# Altium footprint library XB7608A.PcbLib: 1 footprints
Each footprint in its own frame and in the unit in brackets; x right, y up, seen from the top. Pads: shape width x height; smd on the part's side, far side on the other; paste and mask are expansions set on the pad; w line width, h text height; cw(c..) or ccw(c..) is an arc to the next point about the centre after c.
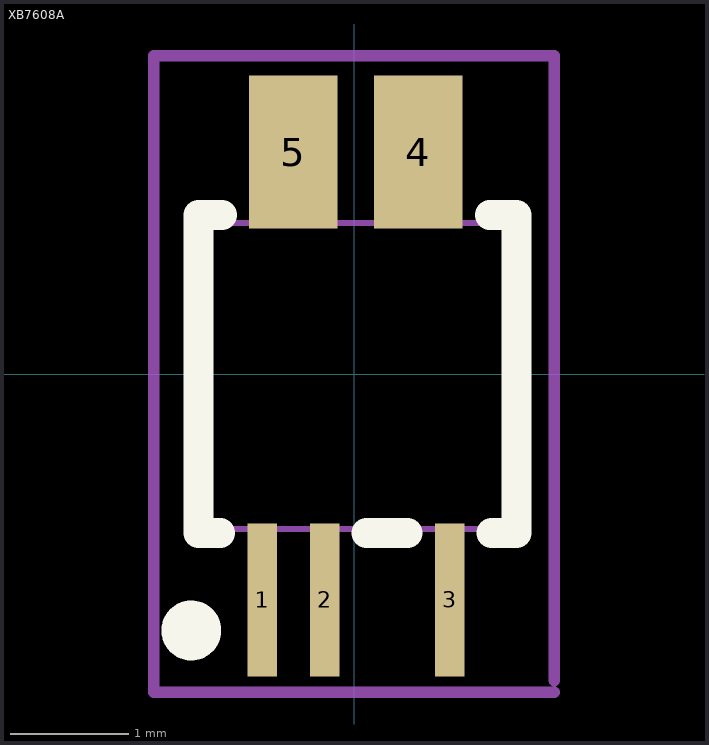
[diagram p0: the footprint, top view; thin cyan lines are the x and y axes]

## XB7608A [mm]
height 0.55
pads (5):
  rect 0.25x1.3 smd paste+0 mask+0.051: 1(-0.779,-1.917) 2(-0.249,-1.917) 3(0.811,-1.917)
  rect 0.75x1.3 smd paste+0 mask+0.051: 4(0.546,1.883) 5(-0.514,1.883)
Top Overlay:
  circle w0.254: c-1.381,-2.176 r0.127
  lines w0.254: -1.135,-1.351 -1.32,-1.351 -1.32,1.349 -1.12,1.349 ; 0.107,-1.351 0.455,-1.351 ; 1.152,1.349 1.38,1.349 1.38,-1.351 1.167,-1.351
Top Assembly:
  lines w0.1: 1.7,-2.7 -1.7,-2.7 -1.7,2.7 1.7,2.7 1.7,0.9 1.7,-0.5 1.7,-2.6
  text "'.Designator'" at -0.975,-0.35 h0.7
Mechanical 15:
  region: -0.879,-2.017 -0.879,-1.517 -0.679,-1.517 -0.679,-2.017
  region: -0.879,-1.527 -0.879,-1.307 -0.679,-1.307 -0.679,-1.527
  region: -0.349,-2.017 -0.349,-1.517 -0.149,-1.517 -0.149,-2.017
  region: -0.349,-1.527 -0.349,-1.307 -0.149,-1.307 -0.149,-1.527
  region: 0.711,-2.017 0.711,-1.517 0.911,-1.517 0.911,-2.017
  region: 0.711,-1.527 0.711,-1.307 0.911,-1.307 0.911,-1.527
  region: -0.864,1.483 -0.864,1.983 -0.164,1.983 -0.164,1.483
  region: -0.864,1.273 -0.864,1.493 -0.164,1.493 -0.164,1.273
  region: 0.196,1.483 0.196,1.983 0.896,1.983 0.896,1.483
  region: 0.196,1.273 0.196,1.493 0.896,1.493 0.896,1.273
  region: -1.224,-2.017 -1.225,-1.993 -1.26,-1.96 -1.308,-1.96 -1.343,-1.993 -1.344,-2.017 -1.343,-2.041 -1.308,-2.074 -1.26,-2.074 -1.225,-2.041 -1.224,-2.017
  lines w0.051: -1.284,-1.317 1.316,-1.317 1.316,1.283 -1.284,1.283 -1.284,-1.317
3D body "User Library-XB7608AF.STEP": height 1.05, standoff -0.04, extent -1.32,-2.082 1.38,2.081